# EAGLE library part MMS-108-02-T-SV (library piccoli)
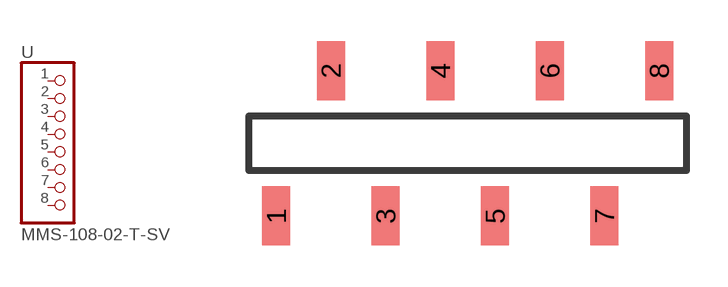
[diagram p7: symbol with the pads of MMS-108-02-T-SV; footprint MMS-108-02-T-SV]

Designator prefix -

## MMS-108-02-T-SV  [MMS-108-02-T-SV]
1  1  pas
2  2  pas
3  3  pas
4  4  pas
5  5  pas
6  6  pas
7  7  pas
8  8  pas

## Footprint MMS-108-02-T-SV (pad centres in mm)
smd 1.02 x 2.16: 1 -7,-2.655; 2 -5,2.655; 3 -3,-2.655; 4 -1,2.655; 5 1,-2.655; 6 3,2.655; 7 5,-2.655; 8 7,2.655